# EAGLE library part MAX6369KA+T (library BME_Components)
Supervisory Circuits Pin-Selectable Watchdog Timer
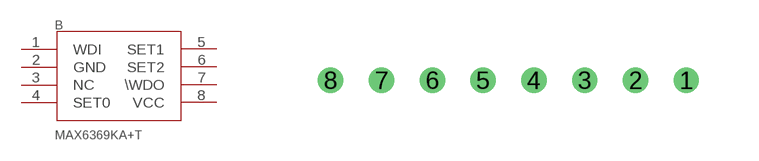
[diagram p2: symbol with the pads of MAX6369KA+T_SOT65P280X145-8N; footprint MAX6369KA+T_SOT65P280X145-8N]

Designator prefix B

## MAX6369KA+TMAX6369KA+T_MAX6369KA+T_SOT65P280X145-8N (DATASHEET_LINK: https://componentsearchengine.com/Datasheets/1/MAX6369KA+T.pdf; GEOMETRY.HEIGHT: 1.45mm; MANUFACTURER_NAME: Maxim Integrated; MANUFACTURER_PART_NUMBER: MAX6369KA+T; MOUSER_PART_NUMBER: 700-MAX6369KAT)  [MAX6369KA+T_SOT65P280X145-8N]
1  WDI  pas
2  GND  pwr
3  NC  pas
4  SET0  pas
5  SET1  pas
6  SET2  pas
7  \WDO  pas
8  VCC  pwr

## Footprint MAX6369KA+T_SOT65P280X145-8N (pad centres in mm)
drill 0.127 pad 0.254 round: 1 8.89,0; 2 7.62,0; 3 6.35,0; 4 5.08,0; 5 3.81,0; 6 2.54,0; 7 1.27,0; 8 0,0